# Altium footprint library 数码管.PcbLib: 21 footprints (part 1 of 2)
Each footprint in its own frame and in the unit in brackets; x right, y up, seen from the top. Pads: shape width x height; smd on the part's side, far side on the other; paste and mask are expansions set on the pad; w line width, h text height; cw(c..) or ccw(c..) is an arc to the next point about the centre after c.
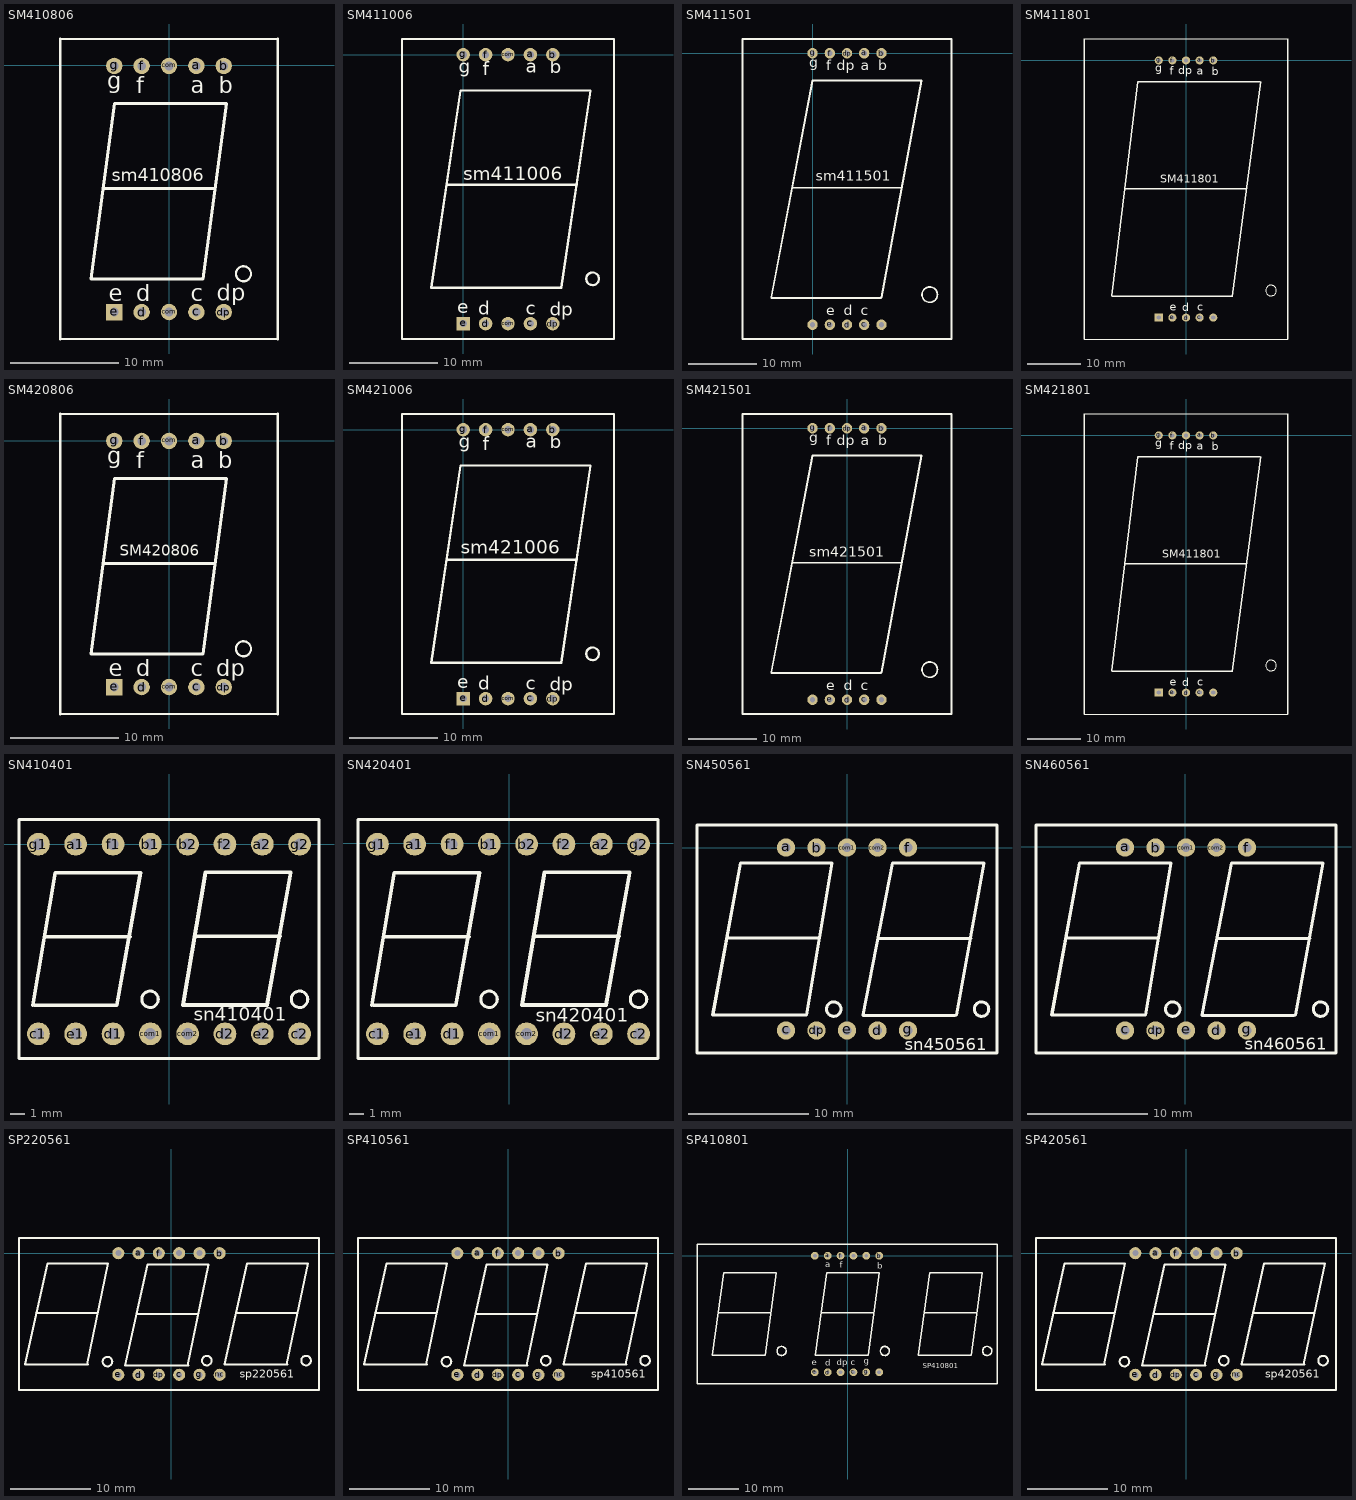
[diagram p0: the footprints below, top view; thin cyan lines are the x and y axes]

## SM410806 [mil]
pads (10):
  round 60 hole 32: a(100,-3) b(200,-3) c(100,-903) com(0,-903) com(0,-3) d(-100,-903) dp(200,-903) f(-100,-3) g(-200,-3)
  rect 60x60 hole 32: e(-200,-903)
Top Overlay:
  circle w8: c272.44,-763 r27.56
  lines w8: -397.64,-1001.42 397.64,-1001.42 ; -397.64,95.42 397.64,95.42 ; -242.2,-447.37 -238.26,-451.31 ; 167.25,-451.31 171.19,-447.37
  lines w10: -397.64,-1001.42 -397.64,95.42 ; -238.26,-451.31 167.25,-451.31 ; 397.64,-1001.42 397.64,95.42 ; -285.5,-782.02 123.94,-782.02 210.56,-140.28 -198.89,-140.28 -285.5,-782.02
  text "sm410806" at -210,-425 h47.24
  text "g" at -225.87,-86.3 h60
  text "f" at -120,-103 h60
  text "a" at 80,-103 h60
  text "b" at 181,-103 h60
  text "e" at -220,-863 h60
  text "dp" at 174,-861 h60
  text "c" at 80,-863 h60
  text "d" at -120,-863 h60

## SM411006 [mil]
pads (10):
  round 60 hole 32: a(299.87,-0.44) b(399.87,-0.44) c(299.87,-1200.52) com(199.87,-1200.52) com(199.87,-0.44) d(99.87,-1200.52) dp(399.87,-1200.52) f(99.87,-0.44) g(-0.13,-0.44)
  rect 60x60 hole 32: e(-0.13,-1200.52)
Top Overlay:
  circle w10: c577.43,-1000.52 r28.28
  lines w10: -72.57,-580.52 507.43,-580.52 ; 199.87,69.48 -272.57,69.48 ; -272.57,69.48 672.32,69.48 ; -272.57,69.48 -272.57,-1269.1 672.32,-1269.1 ; 672.31,-1269.1 672.31,69.48 ; 672.32,-1269.1 672.32,69.48 ; -142.57,-1040.52 437.43,-1040.52 567.43,-160.52 -12.57,-160.52 -142.57,-1040.52
  text "e" at -26,-1154 h60
  text "g" at -20,-80 h60
  text "f" at 88,-92 h60
  text "a" at 280,-82 h60
  text "b" at 386,-84 h60
  text "dp" at 386,-1166 h60
  text "c" at 278,-1160 h60
  text "d" at 68,-1162 h60
  text "sm411006" at 0,-560 h60

## SM411501 [mil]
pads (10):
  round 60 hole 31.5: a(300,0) b(400,0) c(300,-1574.8) com(0,-1574.8) com(400,-1574.8) d(200,-1574.8) dp(200,0) e(100,-1574.8) f(100,0) g(0,0)
Top Overlay:
  circle w10: c680,-1400 r44.72
  lines w10: -240.07,-1417.32 0,-157.48 632.22,-157.48 400,-1417.32 ; -240,-1420 397.32,-1420 ; -112.99,-780 520,-780 ; -406.3,-1657.48 -406.3,82.68 806.3,82.68 806.3,-1657.48 -406.3,-1657.48
  text "f" at 80,-100 h60
  text "g" at -20,-80 h60
  text "c" at 280,-1520 h60
  text "d" at 180,-1520 h60
  text "e" at 80,-1520 h60
  text "dp" at 140,-100 h60
  text "a" at 280,-100 h60
  text "b" at 380,-100 h60
  text "sm411501" at 20,-740 h60

## SM411801 [mil]
pads (10):
  round 60 hole 32: a(100,0) b(200,0) c(100,-1889.76) com(200,-1889.76) d(0,-1889.76) dp(0,0) e(-100,-1889.76) f(-100,0) g(-200,0)
  rect 60x60 hole 32: com(-200,-1889.76)
Top Overlay:
  circle w8: c624.63,-1691 r39.37
  lines w8: -748.03,-2047.24 748.03,-2047.24 ; -748.03,157.48 748.03,157.48
  lines w10: -748.03,-2047.24 -748.03,157.48 ; -545,-1732.28 342.52,-1732.28 ; -545,-1728 -355.02,-157.48 544.2,-157.48 ; -451,-943 445,-943 ; 341.23,-1732.28 549,-157.48 ; 748.03,-2047.24 748.03,157.48
  text "SM411801" at -190,-900 h59.05
  text "d" at -27,-1843 h60
  text "c" at 83,-1838 h60
  text "dp" at -58,-100 h60
  text "e" at -121,-1838 h60
  text "b" at 188,-110 h60
  text "a" at 78,-105 h60
  text "f" at -121,-105 h60
  text "g" at -226,-84 h60

## SM420806 [mil]
pads (10):
  round 60 hole 32: a(100,0) b(200,0) c(100,-900) com(0,-900) com(0,0) d(-100,-900) dp(200,-900) f(-100,0) g(-200,0)
  rect 60x60 hole 32: e(-200,-900)
Top Overlay:
  circle w8: c272.44,-760 r27.56
  lines w8: -397.64,-998.42 397.64,-998.42 ; -397.64,98.42 397.64,98.42 ; -242.2,-444.37 -238.26,-448.31 ; 167.25,-448.31 171.19,-444.37
  lines w10: -397.64,-998.42 -397.64,98.42 ; -238.26,-448.31 167.25,-448.31 ; 397.64,-998.42 397.64,98.42 ; -285.5,-779.02 123.94,-779.02 210.56,-137.28 -198.89,-137.28 -285.5,-779.02
  text "SM420806" at -180,-420 h40
  text "g" at -225.87,-83.3 h60
  text "f" at -120,-100 h60
  text "a" at 80,-100 h60
  text "b" at 180,-100 h60
  text "e" at -220,-860 h60
  text "dp" at 172,-861 h60
  text "c" at 80,-860 h60
  text "d" at -120,-860 h60

## SM421006 [mil]
pads (10):
  round 60 hole 32: a(299.87,-0.44) b(399.87,-0.44) c(299.87,-1200.52) com(199.87,-1200.52) com(199.87,-0.44) d(99.87,-1200.52) dp(399.87,-1200.52) f(99.87,-0.44) g(-0.13,-0.44)
  rect 60x60 hole 32: e(-0.13,-1200.52)
Top Overlay:
  circle w10: c577.43,-1000.52 r28.28
  lines w10: -72.57,-580.52 507.43,-580.52 ; 199.87,69.48 -272.57,69.48 ; -272.57,69.48 672.32,69.48 ; -272.57,69.48 -272.57,-1269.1 672.32,-1269.1 ; 672.31,-1269.1 672.31,69.48 ; 672.32,-1269.1 672.32,69.48 ; -142.57,-1040.52 437.43,-1040.52 567.43,-160.52 -12.57,-160.52 -142.57,-1040.52
  text "e" at -26,-1154 h60
  text "g" at -20,-80 h60
  text "f" at 88,-92 h60
  text "a" at 280,-82 h60
  text "b" at 386,-84 h60
  text "dp" at 386,-1166 h60
  text "c" at 278,-1160 h60
  text "d" at 68,-1162 h60
  text "sm421006" at -10,-555 h60

## SM421501 [mil]
pads (10):
  round 60 hole 31.5: a(100,0) b(200,0) c(100,-1574.8) com(-200,-1574.8) com(200,-1574.8) d(0,-1574.8) dp(0,0) e(-100,-1574.8) f(-100,0) g(-200,0)
Top Overlay:
  circle w10: c480,-1400 r44.72
  lines w10: -440.07,-1417.32 -200,-157.48 432.22,-157.48 200,-1417.32 ; -440,-1420 197.32,-1420 ; -312.99,-780 320,-780 ; -606.3,-1657.48 606.3,-1657.48 606.3,82.68 -606.3,82.68 -606.3,-1657.48
  text "b" at 180,-100 h60
  text "a" at 80,-100 h60
  text "dp" at -60,-100 h60
  text "e" at -120,-1520 h60
  text "d" at -20,-1520 h60
  text "c" at 80,-1520 h60
  text "g" at -220,-80 h60
  text "f" at -120,-100 h60
  text "sm421501" at -220,-745 h60

## SM421801 [mil]
pads (10):
  round 60 hole 32: a(100,0) b(200,0) c(100,-1889.76) com(200,-1889.76) d(0,-1889.76) dp(0,0) e(-100,-1889.76) f(-100,0) g(-200,0)
  rect 60x60 hole 32: com(-200,-1889.76)
Top Overlay:
  circle w8: c624.63,-1691 r39.37
  lines w8: -748.03,-2047.24 748.03,-2047.24 ; -748.03,157.48 748.03,157.48
  lines w10: -748.03,-2047.24 -748.03,157.48 ; -545,-1732.28 342.52,-1732.28 ; -545,-1728 -355.02,-157.48 544.2,-157.48 ; -451,-943 445,-943 ; 341.23,-1732.28 549,-157.48 ; 748.03,-2047.24 748.03,157.48
  text "g" at -226,-84 h60
  text "f" at -121,-105 h60
  text "a" at 78,-105 h60
  text "b" at 188,-110 h60
  text "e" at -121,-1838 h60
  text "dp" at -58,-100 h60
  text "c" at 83,-1838 h60
  text "d" at -27,-1843 h60
  text "SM411801" at -175,-900 h59.05

## SN410401 [mil]
pads (16):
  round 60 hole 30: a1(-246.06,0) a2(246.06,0) b1(-49.21,0) b2(49.21,0) c1(-344.49,-500) c2(344.49,-500) com1(-49.21,-500) com2(49.21,-500) d1(-147.64,-500) d2(147.64,-500) e1(-246.06,-500) e2(246.06,-500) f1(-147.64,0) f2(147.64,0) g1(-344.49,0) g2(344.49,0)
Top Overlay:
  circle w8: c344.35,-409 r21.65
  circle w8: c-50,-409 r21.65
  lines w8: -395.67,-564.96 395.67,-564.96 395.67,64.96 -395.67,64.96 -395.67,-564.96
  lines w10: -359.15,-425 -300,-75 -75,-75 -137.63,-425 ; -354,-425 -137.79,-425 ; -328,-244 -103,-244 ; 36.85,-424 96,-74 321,-74 258.37,-424 ; 42,-424 258.2,-424 ; 68,-243 293,-243
  text "sn410401" at 65,-465 h35.43

## SN420401 [mil]
pads (16):
  round 60 hole 30: a1(-249.06,-2) a2(243.06,-2) b1(-52.21,-2) b2(46.21,-2) c1(-347.49,-502) c2(341.49,-502) com1(-52.21,-502) com2(46.21,-502) d1(-150.64,-502) d2(144.64,-502) e1(-249.06,-502) e2(243.06,-502) f1(-150.64,-2) f2(144.64,-2) g1(-347.49,-2) g2(341.49,-2)
Top Overlay:
  circle w8: c-53,-411 r21.65
  circle w8: c341.35,-411 r21.65
  lines w8: -398.67,-566.96 -398.67,62.96 392.67,62.96 392.67,-566.96 -398.67,-566.96
  lines w10: -362.15,-427 -303,-77 -78,-77 -140.63,-427 ; -357,-427 -140.79,-427 ; -331,-246 -106,-246 ; 33.85,-426 93,-76 318,-76 255.37,-426 ; 39,-426 255.21,-426 ; 65,-245 290,-245
  text "sn420401" at 70,-470 h35.43

## SN450561 [mil]
pads (10):
  round 60 hole 30: a(-200,0) b(-100,0) c(-200,-600) com1(0,0) com2(100,0) d(100,-600) dp(-100,-600) e(0,-600) f(200,0) g(200,-600)
Top Overlay:
  circle w10: c441.38,-530 r23.62
  circle w10: c-43.62,-530 r23.62
  lines w10: -440.46,-550 -350,-50 -50,-50 -133.5,-550 -437.01,-550 ; -394,-297 -91,-297 ; 52.58,-550 150,-50 350,-50 450,-50 359.54,-550 ; 53.05,-551 354.33,-551 ; 101,-298 406,-298 ; -492.13,-674.02 -492.13,74.02 492.13,74.02 492.13,-674.02 -492.13,-674.02
  text "sn450561" at 190,-665 h39.37

## SN460561 [mil]
pads (10):
  round 60 hole 30: a(-198,-2) b(-98,-2) c(-198,-602) com1(2,-2) com2(102,-2) d(102,-602) dp(-98,-602) e(2,-602) f(202,-2) g(202,-602)
Top Overlay:
  circle w10: c443.38,-532 r23.62
  circle w10: c-41.62,-532 r23.62
  lines w10: -438.46,-552 -348,-52 -48,-52 -131.5,-552 -435.01,-552 ; -392,-299 -89,-299 ; 54.58,-552 152,-52 352,-52 452,-52 361.54,-552 ; 55.05,-553 356.33,-553 ; 103,-300 408,-300 ; -490.13,-676.02 -490.13,72.02 494.13,72.02 494.13,-676.02 -490.13,-676.02
  text "sn460561" at 195,-665 h39.37

## SP220561 [mil]
pads (12):
  round 60 hole 30: a(-160,0) b(240,0) c(40,-600) com1(-260,0) com2(40,0) com3(140,0) d(-160,-600) dp(-60,-600) e(-260,-600) f(-60,0) g(140,-600) nc(240,-600)
Top Overlay:
  circle w10: c-313.62,-535 r23.62
  circle w10: c176.38,-530 r23.62
  circle w10: c666.38,-530 r23.62
  lines w10: -721.34,-550 -610,-50 -310,-50 -414.38,-550 ; -718.66,-550 -410,-550 ; -665,-295 -365,-295 ; -226.34,-555 -115,-55 185,-55 80.62,-555 ; -223.66,-555 85,-555 ; -170,-300 130,-300 ; 263.66,-550 375,-50 675,-50 570.62,-550 ; 266.34,-550 575,-550 ; 320,-295 620,-295 ; -750.16,-674.02 730.16,-674.02 730.16,74.02 -750.16,74.02 -750.16,-674.02
  text "sp220561" at 340,-615 h39.37

## SP410561 [mil]
pads (12):
  round 60 hole 30: a(-150,0) b(250,0) c(50,-600) com1(-250,0) com2(50,0) com3(150,0) d(-150,-600) dp(-50,-600) e(-250,-600) f(-50,0) g(150,-600) nc(250,-600)
Top Overlay:
  circle w10: c676.38,-530 r23.62
  circle w10: c186.38,-530 r23.62
  circle w10: c-303.62,-535 r23.62
  lines w10: -711.34,-550 -600,-50 -300,-50 -404.38,-550 ; -708.66,-550 -400,-550 ; -655,-295 -355,-295 ; -216.34,-555 -105,-55 195,-55 90.62,-555 ; -213.66,-555 95,-555 ; -160,-300 140,-300 ; 273.66,-550 385,-50 685,-50 580.62,-550 ; 276.34,-550 585,-550 ; 330,-295 630,-295 ; -740.16,-674.02 -740.16,74.02 740.16,74.02 740.16,-674.02 -740.16,-674.02
  text "sp410561" at 410,-615 h39.37

## SP410801 [mil]
pads (12):
  round 60 hole 30: a(-155,0) b(245,0) c(45,-905.51) com1(-255,0) com2(45,0) com3(145,0) d(-155,-905.51) dp(-55,-905.51) e(-255,-905.51) f(-55,0) g(145,-905.51) nc(245,-905.51)
Top Overlay:
  circle w10: c1084.57,-740 r35.43
  circle w10: c289.57,-740 r35.43
  circle w10: c-513.08,-740 r35.43
  lines w8: -1007.2,-439.37 -1003.26,-443.31 ; -597.75,-443.31 -593.81,-439.37 ; -207.2,-439.37 -203.26,-443.31 ; 202.25,-443.31 206.19,-439.37 ; 592.8,-439.37 596.74,-443.31 ; 1002.25,-443.31 1006.19,-439.37
  lines w10: -1003.26,-443.31 -597.75,-443.31 ; -203.26,-443.31 202.25,-443.31 ; 596.74,-443.31 1002.25,-443.31 ; -1170.35,-994.1 1160.35,-994.1 1160.35,88.58 -1170.35,88.58 -1170.35,-994.1 ; -1050.5,-774.02 -963.89,-132.28 -554.44,-132.28 -641.05,-774.02 -1050.5,-774.02 ; -250.5,-774.02 -163.89,-132.28 245.56,-132.28 158.94,-774.02 -250.5,-774.02 ; 549.5,-774.02 636.11,-132.28 1045.56,-132.28 958.95,-774.02 549.5,-774.02
  text "e" at -280,-850 h47.24
  text "d" at -175,-855 h47.24
  text "dp" at -85,-850 h47.24
  text "c" at 25,-850 h47.24
  text "g" at 125,-840 h47.24
  text "SP410801" at 585,-875 h40
  text "b" at 230,-100 h47.24
  text "f" at -60,-95 h47.24
  text "a" at -175,-90 h47.24

## SP420561 [mil]
pads (12):
  round 60 hole 30: a(-150,0) b(250,0) c(50,-600) com1(-250,0) com2(50,0) com3(150,0) d(-150,-600) dp(-50,-600) e(-250,-600) f(-50,0) g(150,-600) nc(250,-600)
Top Overlay:
  circle w10: c-303.62,-535 r23.62
  circle w10: c186.38,-530 r23.62
  circle w10: c676.38,-530 r23.62
  lines w10: -711.34,-550 -600,-50 -300,-50 -404.38,-550 ; -708.66,-550 -400,-550 ; -655,-295 -355,-295 ; -216.34,-555 -105,-55 195,-55 90.62,-555 ; -213.66,-555 95,-555 ; -160,-300 140,-300 ; 273.66,-550 385,-50 685,-50 580.62,-550 ; 276.34,-550 585,-550 ; 330,-295 630,-295 ; -740.16,-674.02 740.16,-674.02 740.16,74.02 -740.16,74.02 -740.16,-674.02
  text "sp420561" at 390,-615 h39.76